# Altium integrated library Motorola Microprocessor 32-Bit.IntLib: 2 symbols
Pins are listed as number, name and electrical type; pins without a type are passive.

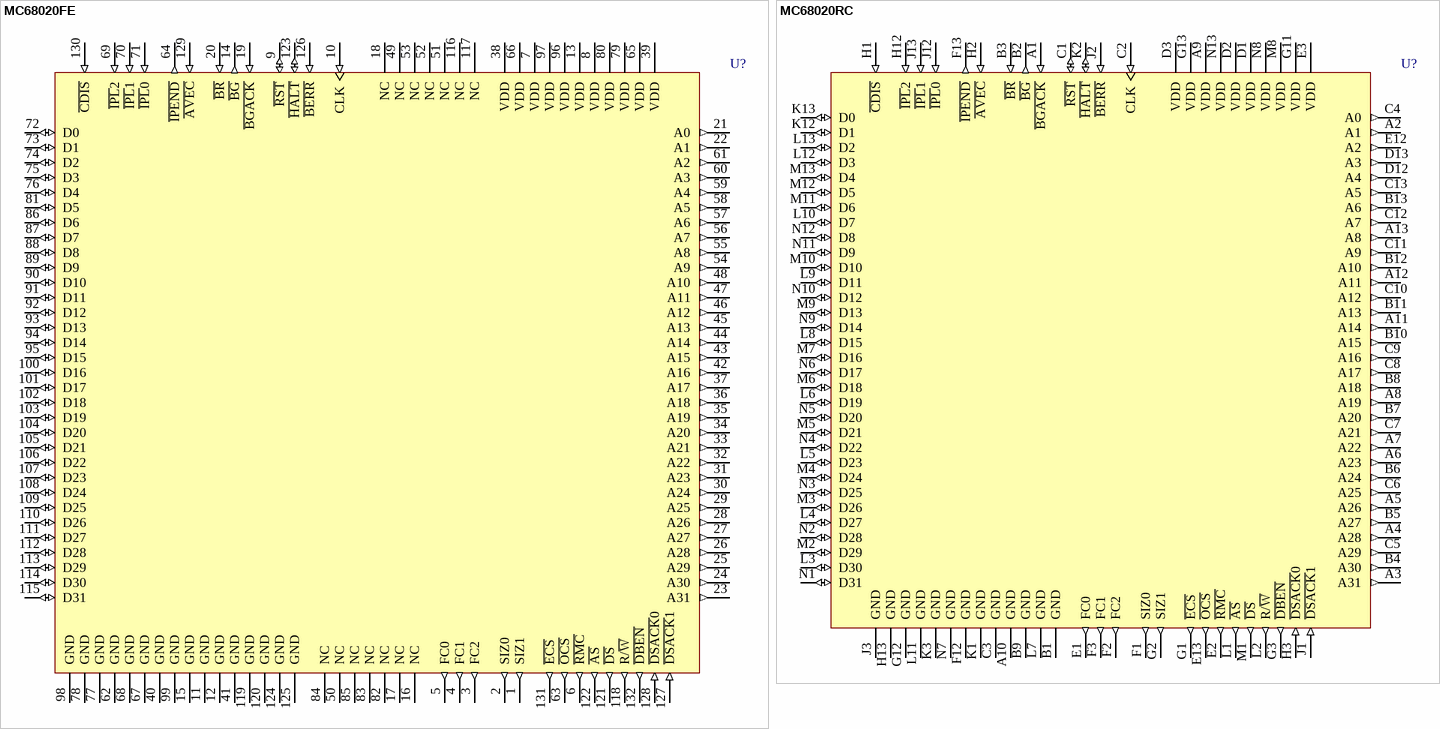
[diagram p0: symbols MC68020FE to MC68020RC]

## MC68020FE
designator U?
32-Bit Virtual Memory Microprocessor; Published: 17-Jul-2002; LatestRevisionDate: 13-Apr-2006; LatestRevisionNote: IPC-7351 Footprint Added.; DatasheetVersion: 1990; PackageReference: 831-01; Publisher: Altium Limited; PackageDescription: 132-Pin Ceramic Quad Flat Pack 0.635 mm Pitch
footprint 831-01_N (CQFP, 132-Leads, Body 22.4x22.4mm; Pitch 0.635mm, Gullwing Leadform, IPC Medium Density)
footprint 831-01_L (CQFP, 132-Leads, Body 22.4x22.4mm; Pitch 0.635mm, Gullwing Leadform, IPC High Density)
footprint 831-01_M (CQFP, 132-Leads, Body 22.4x22.4mm; Pitch 0.635mm, Gullwing Leadform, IPC Low Density)
3D model MC68020-831-01 (132-Pin Ceramic Quad Flat Pack 0.635 mm Pitch)
pins: 1 SIZ1 (out), 2 SIZ0 (out), 3 FC2 (out), 4 FC1 (out), 5 FC0 (out), 6 ~{RMC} (out), 7 VDD (power), 8 VDD (power), 9 ~{RST} (io), 10 CLK (in), 11 GND (power), 12 GND (power), 13 VDD (power), 14 ~{BG} (out), 15 GND (power), 16 NC, 17 NC, 18 NC, 19 ~{BGACK} (in), 20 ~{BR} (in), 21 A0 (out), 22 A1 (out), 23 A31 (out), 24 A30 (out), 25 A29 (out), 26 A28 (out), 27 A27 (out), 28 A26 (out), 29 A25 (out), 30 A24 (out), 31 A23 (out), 32 A22 (out), 33 A21 (out), 34 A20 (out), 35 A19 (out), 36 A18 (out), 37 A17 (out), 38 VDD (power), 39 VDD (power), 40 GND (power), 41 GND (power), 42 A16 (out), 43 A15 (out), 44 A14 (out), 45 A13 (out), 46 A12 (out), 47 A11 (out), 48 A10 (out), 49 NC, 50 NC, 51 NC, 52 NC, 53 NC, 54 A9 (out), 55 A8 (out), 56 A7 (out), 57 A6 (out), 58 A5 (out), 59 A4 (out), 60 A3 (out), 61 A2 (out), 62 GND (power), 63 ~{OCS} (out), 64 ~{IPEND} (out), 65 VDD (power), 66 VDD (power), 67 GND (power), 68 GND (power), 69 ~{IPL}2 (in), 70 ~{IPL}1 (in), 71 ~{IPL}0 (in), 72 D0 (io), 73 D1 (io), 74 D2 (io), 75 D3 (io), 76 D4 (io), 77 GND (power), 78 GND (power), 79 VDD (power), 80 VDD (power), 81 D5 (io), 82 NC, 83 NC, 84 NC, 85 NC, 86 D6 (io), 87 D7 (io), 88 D8 (io), 89 D9 (io), 90 D10 (io), 91 D11 (io), 92 D12 (io), 93 D13 (io), 94 D14 (io), 95 D15 (io), 96 VDD (power), 97 VDD (power), 98 GND (power), 99 GND (power), 100 D16 (io), 101 D17 (io), 102 D18 (io), 103 D19 (io), 104 D20 (io), 105 D21 (io), 106 D22 (io), 107 D23 (io), 108 D24 (io), 109 D25 (io), 110 D26 (io), 111 D27 (io), 112 D28 (io), 113 D29 (io), 114 D30 (io), 115 D31 (io), 116 NC, 117 NC, 118 R/~{W} (out), 119 GND (power), 120 GND (power), 121 ~{DS} (out), 122 ~{AS} (out), 123 ~{HALT} (io), 124 GND (power), 125 GND (power), 126 ~{BERR} (in), 127 ~{DSACK}1 (in), 128 ~{DSACK}0 (in), 129 ~{AVEC} (in), 130 ~{CDIS} (in), 131 ~{ECS} (out), 132 ~{DBEN} (out)

## MC68020RC
designator U?
32-Bit Virtual Memory Microprocessor; Published: 17-Jul-2002; LatestRevisionDate: 06-Jun-2005; LatestRevisionNote: Stylized 3D Model Added.; DatasheetVersion: 1990; PackageReference: 791-01; Publisher: Altium Limited; PackageDescription: 114-Pin Pin Grid Array 2.54 mm Pitch
footprint 791-01 (PGA, 114-Leads, Body 34x34mm, Pitch 2.54mm)
3D model MC68020-791-01 (114-Pin Pin Grid Array 2.54 mm Pitch)
pins: A1 ~{BGACK} (in), A2 A1 (out), A3 A31 (out), A4 A28 (out), A5 A26 (out), A6 A23 (out), A7 A22 (out), A8 A19 (out), A9 VDD (power), A10 GND (power), A11 A14 (out), A12 A11 (out), A13 A8 (out), B1 GND (power), B2 ~{BG} (out), B3 ~{BR} (in), B4 A30 (out), B5 A27 (out), B6 A24 (out), B7 A20 (out), B8 A18 (out), B9 GND (power), B10 A15 (out), B11 A13 (out), B12 A10 (out), B13 A6 (out), C1 ~{RST} (io), C2 CLK (in), C3 GND (power), C4 A0 (out), C5 A29 (out), C6 A25 (out), C7 A21 (out), C8 A17 (out), C9 A16 (out), C10 A12 (out), C11 A9 (out), C12 A7 (out), C13 A5 (out), D1 VDD (power), D2 VDD (power), D3 VDD (power), D12 A4 (out), D13 A3 (out), E1 FC0 (out), E2 ~{RMC} (out), E3 VDD (power), E12 A2 (out), E13 ~{OCS} (out), F1 SIZ0 (out), F2 FC2 (out), F3 FC1 (out), F12 GND (power), F13 ~{IPEND} (out), G1 ~{ECS} (out), G2 SIZ1 (out), G3 ~{DBEN} (out), G11 VDD (power), G12 GND (power), G13 VDD (power), H1 ~{CDIS} (in), H2 ~{AVEC} (in), H3 ~{DSACK}0 (in), H12 ~{IPL}2 (in), H13 GND (power), J1 ~{DSACK}1 (in), J2 ~{BERR} (in), J3 GND (power), J12 ~{IPL}0 (in), J13 ~{IPL}1 (in), K1 GND (power), K2 ~{HALT} (io), K3 GND (power), K12 D1 (io), K13 D0 (io), L1 ~{AS} (out), L2 R/~{W} (out), L3 D30 (io), L4 D27 (io), L5 D23 (io), L6 D19 (io), L7 GND (power), L8 D15 (io), L9 D11 (io), L10 D7 (io), L11 GND (power), L12 D3 (io), L13 D2 (io), M1 ~{DS} (out), M2 D29 (io), M3 D26 (io), M4 D24 (io), M5 D21 (io), M6 D18 (io), M7 D16 (io), M8 VDD (power), M9 D13 (io), M10 D10 (io), M11 D6 (io), M12 D5 (io), M13 D4 (io), N1 D31 (io), N2 D28 (io), N3 D25 (io), N4 D22 (io), N5 D20 (io), N6 D17 (io), N7 GND (power), N8 VDD (power), N9 D14 (io), N10 D12 (io), N11 D9 (io), N12 D8 (io), N13 VDD (power)